# Altium integrated library Analog Devices Switches and Multiplexers Multiplexers (Muxes).IntLib: 481 symbols (part 5 of 23)
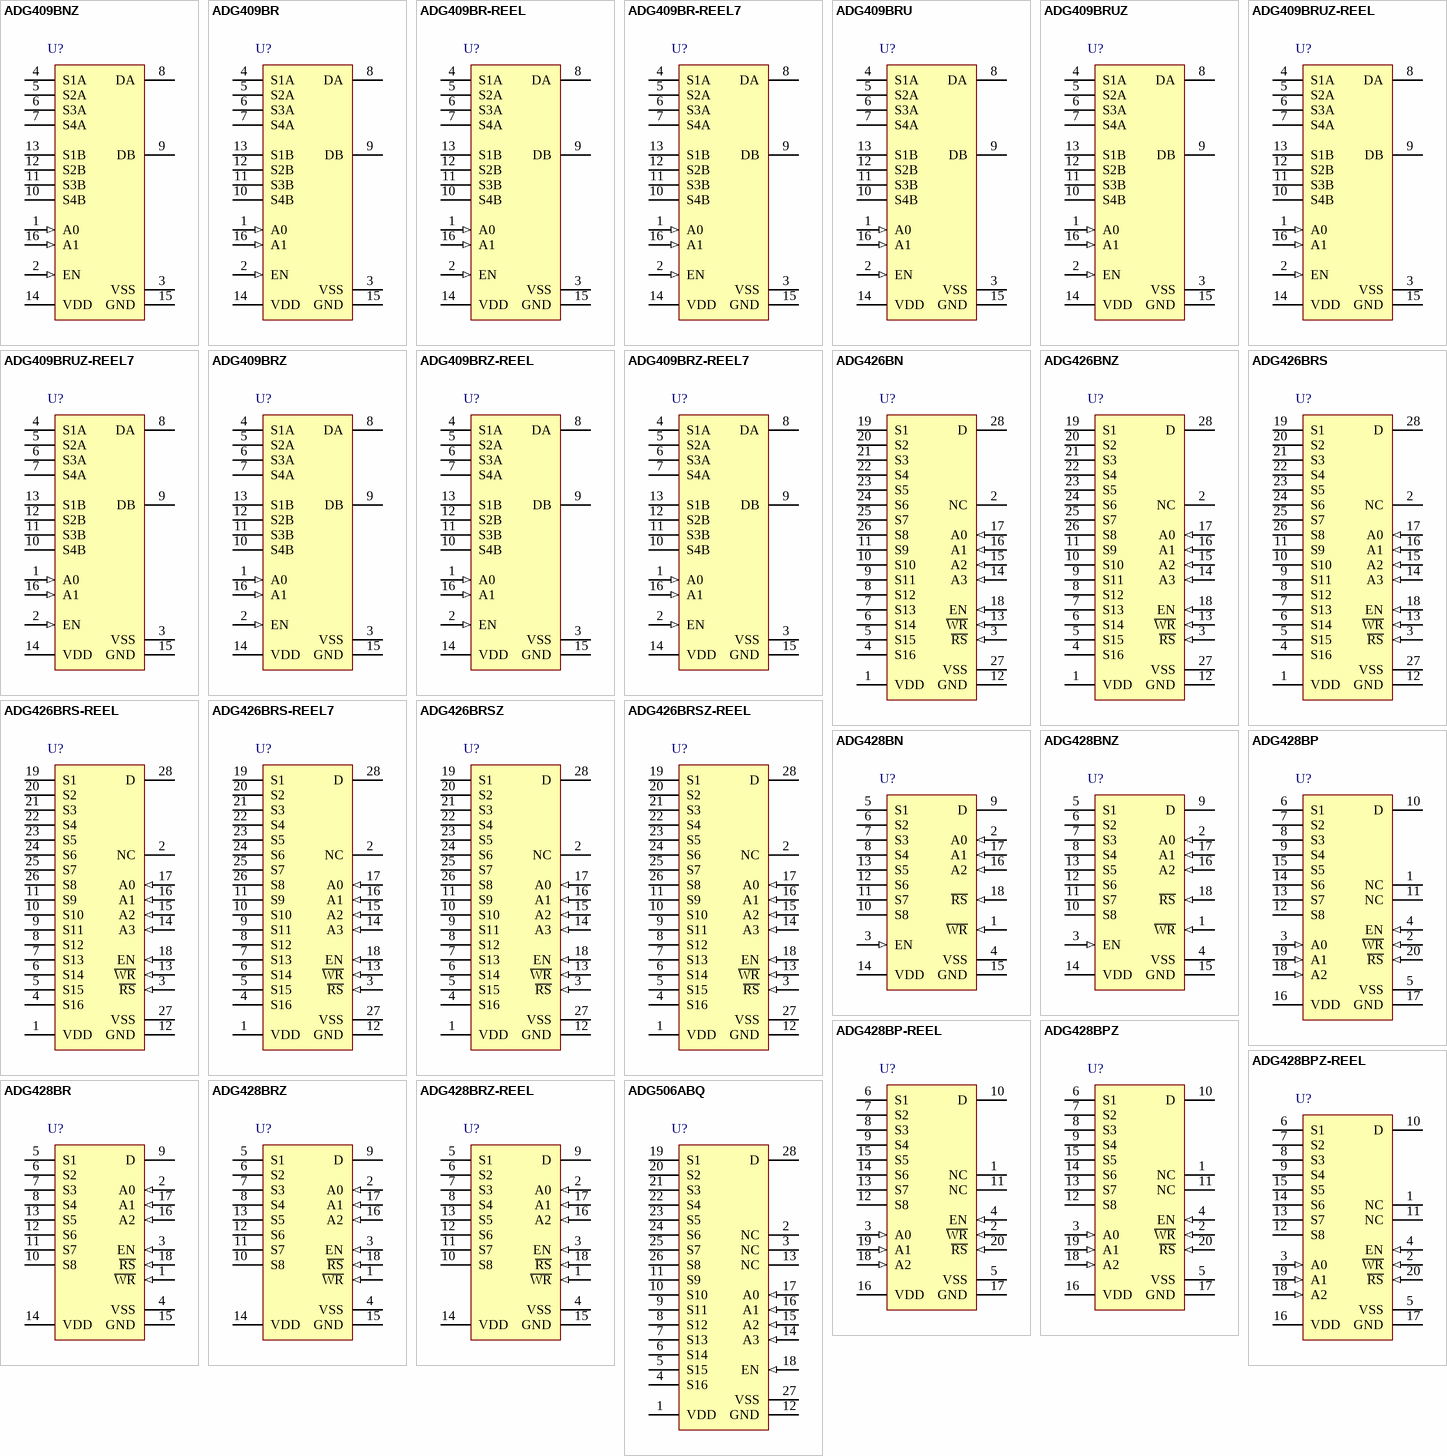
[diagram p21: symbols ADG409BNZ to ADG506ABQ]

## ADG426BN
designator U?
LC2MOS 16-Channel High Performance Analog Multiplexer, 50 Ohm / 90 Ohm Ron, 28-pin DIP (N-28-2), Tube; Manufacturer: Analog Devices; PartNumber: ADG426BN; Max Analog Signal Range: Vss to Vdd; Ron (ohms): 50; t transition (s): 120n; DatasheetVersion: Rev. B; PackageVersion: 071006-A, 07/2006; PackageReference: N-28-2; PackageDescription: 28-Pin Plastic Dual In-Line Package, Row spacing 15.24 mm, Pitch 2.54 mm; Supplier 1: Digi-Key; Supplier Part Number 1: ADG426BN-ND; Supplier 2: Newark; Supplier Part Number 2: 05F6204; Packing: Tube; Mounting Technology: Through Hole; Code_JEDEC: MS-011; ComponentLink1Description: Manufacturer URL; ComponentLink1URL: http://www.analog.com/en/index.html; ComponentLink2Description: Datasheet; ComponentLink2URL: http://www.analog.com/static/imported-files/data_sheets/ADG406_407_426.pdf; ComponentLink3Description: Package Specification; ComponentLink3URL: http://www.analog.com/static/imported-files/packages/50849324123784N_28_2.pdf
footprint ADI-N-28-2 (DIP, 28-Leads, Body 37.4x13.52mm, Pitch 2.54mm)
pins: 1 VDD (power) "Most Positive Power Supply Potential", 2 NC "No Connect.", 3 ~{RS} (in) "Active Low Logic Input. When this pin is low, all switches are open, and address and enable latches registers are cleared to 0.", 4 S16 "Source Terminal 16.These pins can be inputs or outputs", 5 S15 "Source Terminal 15.These pins can be inputs or outputs", 6 S14 "Source Terminal 14.These pins can be inputs or outputs", 7 S13 "Source Terminal 13.These pins can be inputs or outputs", 8 S12 "Source Terminal 12.These pins can be inputs or outputs", 9 S11 "Source Terminal 11.These pins can be inputs or outputs", 10 S10 "Source Terminal 10.These pins can be inputs or outputs", 11 S9 "Source Terminal  9.These pins can be inputs or outputs", 12 GND (power) "Ground (0 V) Reference.", 13 ~{WR} (in) "The rising edge of the W\R\ signal latches the state of the address control lines and the enable line.", 14 A3 (in) "Logic Control Input.", 15 A2 (in) "Logic Control Input.", 16 A1 (in) "Logic Control Input.", 17 A0 (in) "Logic Control Input.", 18 EN (in) "Active High Digital Input. When this pin is low, the device is disabled and all switches are turned off. When this pin is high, the Ax logic inputs determine which switch is turned on.", 19 S1 "Source Terminal 1. These pins can be inputs or outputs.", 20 S2 "Source Terminal 2. These pins can be inputs or outputs.", 21 S3 "Source Terminal 3. These pins can be inputs or outputs.", 22 S4 "Source Terminal 4. These pins can be inputs or outputs.", 23 S5 "Source Terminal 5. These pins can be inputs or outputs.", 24 S6 "Source Terminal 6. These pins can be inputs or outputs.", 25 S7 "Source Terminal 7. These pins can be inputs or outputs.", 26 S8 "Source Terminal 8. These pins can be inputs or outputs.", 27 VSS (power) "Most Negative Power Supply Potential. In single-supply applications, this pin can be connected to ground.", 28 D "Drain Terminal. This pin can be an input or an output."

## ADG426BNZ
designator U?
LC2MOS 16-Channel High Performance Analog Multiplexer, 50 Ohm / 90 Ohm Ron, 28-pin DIP (N-28-2), Tube; Manufacturer: Analog Devices; PartNumber: ADG426BNZ; Max Analog Signal Range: Vss to Vdd; Ron (ohms): 50; t transition (s): 120n; DatasheetVersion: Rev. B; PackageVersion: 071006-A, 07/2006; PackageReference: N-28-2; PackageDescription: 28-Pin Plastic Dual In-Line Package, Row spacing 15.24 mm, Pitch 2.54 mm; Supplier 1: Digi-Key; Supplier Part Number 1: ADG426BNZ-ND; Supplier 2: Farnell; Supplier Part Number 2: 2377071; Supplier 3: Newark; Supplier Part Number 3: 27X8143; Supplier 4: Newark; Supplier Part Number 4: 12M7795; Supplier 5: Mouser; Supplier Part Number 5: 584-ADG426BNZ; Packing: Tube; Mounting Technology: Through Hole; Code_JEDEC: MS-011; ComponentLink1Description: Manufacturer URL; ComponentLink1URL: http://www.analog.com/en/index.html; ComponentLink2Description: Datasheet; ComponentLink2URL: http://www.analog.com/static/imported-files/data_sheets/ADG406_407_426.pdf; ComponentLink3Description: Package Specification; ComponentLink3URL: http://www.analog.com/static/imported-files/packages/50849324123784N_28_2.pdf
footprint ADI-N-28-2 (DIP, 28-Leads, Body 37.4x13.52mm, Pitch 2.54mm)
pins: 1 VDD (power) "Most Positive Power Supply Potential", 2 NC "No Connect.", 3 ~{RS} (in) "Active Low Logic Input. When this pin is low, all switches are open, and address and enable latches registers are cleared to 0.", 4 S16 "Source Terminal 16.These pins can be inputs or outputs", 5 S15 "Source Terminal 15.These pins can be inputs or outputs", 6 S14 "Source Terminal 14.These pins can be inputs or outputs", 7 S13 "Source Terminal 13.These pins can be inputs or outputs", 8 S12 "Source Terminal 12.These pins can be inputs or outputs", 9 S11 "Source Terminal 11.These pins can be inputs or outputs", 10 S10 "Source Terminal 10.These pins can be inputs or outputs", 11 S9 "Source Terminal  9.These pins can be inputs or outputs", 12 GND (power) "Ground (0 V) Reference.", 13 ~{WR} (in) "The rising edge of the W\R\ signal latches the state of the address control lines and the enable line.", 14 A3 (in) "Logic Control Input.", 15 A2 (in) "Logic Control Input.", 16 A1 (in) "Logic Control Input.", 17 A0 (in) "Logic Control Input.", 18 EN (in) "Active High Digital Input. When this pin is low, the device is disabled and all switches are turned off. When this pin is high, the Ax logic inputs determine which switch is turned on.", 19 S1 "Source Terminal 1. These pins can be inputs or outputs.", 20 S2 "Source Terminal 2. These pins can be inputs or outputs.", 21 S3 "Source Terminal 3. These pins can be inputs or outputs.", 22 S4 "Source Terminal 4. These pins can be inputs or outputs.", 23 S5 "Source Terminal 5. These pins can be inputs or outputs.", 24 S6 "Source Terminal 6. These pins can be inputs or outputs.", 25 S7 "Source Terminal 7. These pins can be inputs or outputs.", 26 S8 "Source Terminal 8. These pins can be inputs or outputs.", 27 VSS (power) "Most Negative Power Supply Potential. In single-supply applications, this pin can be connected to ground.", 28 D "Drain Terminal. This pin can be an input or an output."

## ADG426BRS
designator U?
LC2MOS 16-Channel High Performance Analog Multiplexer, 50 Ohm / 90 Ohm Ron, 28-pin (RS-28), Tube; Manufacturer: Analog Devices; PartNumber: ADG426BRS; Max Analog Signal Range: Vss to Vdd; Ron (ohms): 50; t transition (s): 120n; DatasheetVersion: Rev. B; PackageVersion: Aug-06; PackageReference: RS-28; PackageDescription: 28-Pin Shrink Small Outline, Body 10.20 X 5.30 mm, Pitch 0.65 mm; Supplier 1: Digi-Key; Supplier Part Number 1: ADG426BRS-ND; Supplier 2: Newark; Supplier Part Number 2: 05F6205; Supplier 3: Mouser; Supplier Part Number 3: 584-ADG426BRS; Packing: Tube; Mounting Technology: Surface Mount; Code_JEDEC: MO-150-AH; ComponentLink1Description: Manufacturer URL; ComponentLink1URL: http://www.analog.com/en/index.html; ComponentLink2Description: Datasheet; ComponentLink2URL: http://www.analog.com/static/imported-files/data_sheets/ADG406_407_426.pdf; ComponentLink3Description: Package Specification; ComponentLink3URL: http://www.analog.com/static/imported-files/packages/32122249223724RS_28.pdf
footprint ADI-RS-28_N (SOP, 28-Leads, Body 10.2x5.3mm, Pitch 0.65mm, IPC Medium Density)
footprint ADI-RS-28_L (SOP, 28-Leads, Body 10.2x5.3mm, Pitch 0.65mm, IPC High Density)
footprint ADI-RS-28_M (SOP, 28-Leads, Body 10.2x5.3mm, Pitch 0.65mm, IPC Low Density)
pins: 1 VDD (power) "Most Positive Power Supply Potential.", 2 NC "No Connect.", 3 ~{RS} (in) "Active Low Logic Input. When this pin is low, all switches are open, and address and enable latches registers are cleared to 0.", 4 S16 "Source Terminal 16. Can be an input or an output.", 5 S15 "Source Terminal 15. Can be an input or an output.", 6 S14 "Source Terminal 14. Can be an input or an output.", 7 S13 "Source Terminal 13. Can be an input or an output.", 8 S12 "Source Terminal 12. Can be an input or an output.", 9 S11 "Source Terminal 11. Can be an input or an output.", 10 S10 "Source Terminal 10. Can be an input or an output.", 11 S9 "Source Terminal 9. Can be an input or an output.", 12 GND (power) "Ground (0 V) Reference.", 13 ~{WR} (in) "The rising edge of the W\R\ signal latches the state of the address control lines and the enable line.", 14 A3 (in) "Logic Control Input", 15 A2 (in) "Logic Control Input", 16 A1 (in) "Logic Control Input", 17 A0 (in) "Logic Control Input", 18 EN (in) "Active High Digital Input. When this pin is low, the device is disabled and all switches are turned off. When this pin is high, the Ax logic inputs determine which switch is turned on.", 19 S1 "Source Terminal 1. Can be an input or an output.", 20 S2 "Source Terminal 2. Can be an input or an output.", 21 S3 "Source Terminal 3. Can be an input or an output.", 22 S4 "Source Terminal 4. Can be an input or an output.", 23 S5 "Source Terminal 5. Can be an input or an output.", 24 S6 "Source Terminal 6. Can be an input or an output.", 25 S7 "Source Terminal 7. Can be an input or an output.", 26 S8 "Source Terminal 8. Can be an input or an output.", 27 VSS (power) "Most Negative Power Supply Potential. In single-supply applications, this pin can be connected to ground.", 28 D "Drain Terminal. Can be an input or an output."

## ADG426BRS-REEL
designator U?
LC2MOS 16-Channel High Performance Analog Multiplexer, 50 Ohm / 90 Ohm Ron, 28-pin (RS-28), Reel; Manufacturer: Analog Devices; PartNumber: ADG426BRS-REEL; Max Analog Signal Range: Vss to Vdd; Ron (ohms): 50; t transition (s): 120n; DatasheetVersion: Rev. B; PackageVersion: Aug-06; PackageReference: RS-28; PackageDescription: 28-Pin Shrink Small Outline, Body 10.20 X 5.30 mm, Pitch 0.65 mm; Supplier 1: Digi-Key; Supplier Part Number 1: ADG426BRS-REEL-ND; Supplier 2: Newark; Supplier Part Number 2: 09B7036; Supplier 3: Mouser; Supplier Part Number 3: 584-ADG426BRS-R; Packing: Reel; Mounting Technology: Surface Mount; Code_JEDEC: MO-150-AH; ComponentLink1Description: Manufacturer URL; ComponentLink1URL: http://www.analog.com/en/index.html; ComponentLink2Description: Datasheet; ComponentLink2URL: http://www.analog.com/static/imported-files/data_sheets/ADG406_407_426.pdf; ComponentLink3Description: Package Specification; ComponentLink3URL: http://www.analog.com/static/imported-files/packages/32122249223724RS_28.pdf
footprint ADI-RS-28_N (SOP, 28-Leads, Body 10.2x5.3mm, Pitch 0.65mm, IPC Medium Density)
footprint ADI-RS-28_L (SOP, 28-Leads, Body 10.2x5.3mm, Pitch 0.65mm, IPC High Density)
footprint ADI-RS-28_M (SOP, 28-Leads, Body 10.2x5.3mm, Pitch 0.65mm, IPC Low Density)
pins: 1 VDD (power) "Most Positive Power Supply Potential.", 2 NC "No Connect.", 3 ~{RS} (in) "Active Low Logic Input. When this pin is low, all switches are open, and address and enable latches registers are cleared to 0.", 4 S16 "Source Terminal 16. Can be an input or an output.", 5 S15 "Source Terminal 15. Can be an input or an output.", 6 S14 "Source Terminal 14. Can be an input or an output.", 7 S13 "Source Terminal 13. Can be an input or an output.", 8 S12 "Source Terminal 12. Can be an input or an output.", 9 S11 "Source Terminal 11. Can be an input or an output.", 10 S10 "Source Terminal 10. Can be an input or an output.", 11 S9 "Source Terminal 9. Can be an input or an output.", 12 GND (power) "Ground (0 V) Reference.", 13 ~{WR} (in) "The rising edge of the W\R\ signal latches the state of the address control lines and the enable line.", 14 A3 (in) "Logic Control Input", 15 A2 (in) "Logic Control Input", 16 A1 (in) "Logic Control Input", 17 A0 (in) "Logic Control Input", 18 EN (in) "Active High Digital Input. When this pin is low, the device is disabled and all switches are turned off. When this pin is high, the Ax logic inputs determine which switch is turned on.", 19 S1 "Source Terminal 1. Can be an input or an output.", 20 S2 "Source Terminal 2. Can be an input or an output.", 21 S3 "Source Terminal 3. Can be an input or an output.", 22 S4 "Source Terminal 4. Can be an input or an output.", 23 S5 "Source Terminal 5. Can be an input or an output.", 24 S6 "Source Terminal 6. Can be an input or an output.", 25 S7 "Source Terminal 7. Can be an input or an output.", 26 S8 "Source Terminal 8. Can be an input or an output.", 27 VSS (power) "Most Negative Power Supply Potential. In single-supply applications, this pin can be connected to ground.", 28 D "Drain Terminal. Can be an input or an output."

## ADG426BRS-REEL7
designator U?
LC2MOS 16-Channel High Performance Analog Multiplexer, 50 Ohm / 90 Ohm Ron, 28-pin (RS-28), Reel; Manufacturer: Analog Devices; PartNumber: ADG426BRS-REEL7; Max Analog Signal Range: Vss to Vdd; Ron (ohms): 50; t transition (s): 120n; DatasheetVersion: Rev. B; PackageVersion: Aug-06; PackageReference: RS-28; PackageDescription: 28-Pin Shrink Small Outline, Body 10.20 X 5.30 mm, Pitch 0.65 mm; Supplier 1: Mouser; Supplier Part Number 1: N/A; Packing: Reel; Mounting Technology: Surface Mount; Code_JEDEC: MO-150-AH; ComponentLink1Description: Manufacturer URL; ComponentLink1URL: http://www.analog.com/en/index.html; ComponentLink2Description: Datasheet; ComponentLink2URL: http://www.analog.com/static/imported-files/data_sheets/ADG406_407_426.pdf; ComponentLink3Description: Package Specification; ComponentLink3URL: http://www.analog.com/static/imported-files/packages/32122249223724RS_28.pdf
footprint ADI-RS-28_N (SOP, 28-Leads, Body 10.2x5.3mm, Pitch 0.65mm, IPC Medium Density)
footprint ADI-RS-28_L (SOP, 28-Leads, Body 10.2x5.3mm, Pitch 0.65mm, IPC High Density)
footprint ADI-RS-28_M (SOP, 28-Leads, Body 10.2x5.3mm, Pitch 0.65mm, IPC Low Density)
pins: 1 VDD (power) "Most Positive Power Supply Potential.", 2 NC "No Connect.", 3 ~{RS} (in) "Active Low Logic Input. When this pin is low, all switches are open, and address and enable latches registers are cleared to 0.", 4 S16 "Source Terminal 16. Can be an input or an output.", 5 S15 "Source Terminal 15. Can be an input or an output.", 6 S14 "Source Terminal 14. Can be an input or an output.", 7 S13 "Source Terminal 13. Can be an input or an output.", 8 S12 "Source Terminal 12. Can be an input or an output.", 9 S11 "Source Terminal 11. Can be an input or an output.", 10 S10 "Source Terminal 10. Can be an input or an output.", 11 S9 "Source Terminal 9. Can be an input or an output.", 12 GND (power) "Ground (0 V) Reference.", 13 ~{WR} (in) "The rising edge of the W\R\ signal latches the state of the address control lines and the enable line.", 14 A3 (in) "Logic Control Input", 15 A2 (in) "Logic Control Input", 16 A1 (in) "Logic Control Input", 17 A0 (in) "Logic Control Input", 18 EN (in) "Active High Digital Input. When this pin is low, the device is disabled and all switches are turned off. When this pin is high, the Ax logic inputs determine which switch is turned on.", 19 S1 "Source Terminal 1. Can be an input or an output.", 20 S2 "Source Terminal 2. Can be an input or an output.", 21 S3 "Source Terminal 3. Can be an input or an output.", 22 S4 "Source Terminal 4. Can be an input or an output.", 23 S5 "Source Terminal 5. Can be an input or an output.", 24 S6 "Source Terminal 6. Can be an input or an output.", 25 S7 "Source Terminal 7. Can be an input or an output.", 26 S8 "Source Terminal 8. Can be an input or an output.", 27 VSS (power) "Most Negative Power Supply Potential. In single-supply applications, this pin can be connected to ground.", 28 D "Drain Terminal. Can be an input or an output."

## ADG426BRSZ
designator U?
LC2MOS 16-Channel High Performance Analog Multiplexer, 50 Ohm / 90 Ohm Ron, 28-pin SOP (RS-28), Tube; Manufacturer: Analog Devices; PartNumber: ADG426BRSZ; Max Analog Signal Range: Vss to Vdd; Ron (ohms): 50; t transition (s): 120n; DatasheetVersion: Rev. B; PackageVersion: Aug-06; PackageReference: RS-28; PackageDescription: 28-Pin Shrink Small Outline, Body 10.20 X 5.30 mm, Pitch 0.65 mm; Supplier 1: Digi-Key; Supplier Part Number 1: ADG426BRSZ-ND; Supplier 2: Farnell; Supplier Part Number 2: 2305794; Supplier 3: Newark; Supplier Part Number 3: 59K1266; Supplier 4: Mouser; Supplier Part Number 4: 584-ADG426BRSZ; Packing: Tube; Mounting Technology: Surface Mount; Code_JEDEC: MO-150-AH; ComponentLink1Description: Manufacturer URL; ComponentLink1URL: http://www.analog.com/en/index.html; ComponentLink2Description: Datasheet; ComponentLink2URL: http://www.analog.com/static/imported-files/data_sheets/ADG406_407_426.pdf; ComponentLink3Description: Package Specification; ComponentLink3URL: http://www.analog.com/static/imported-files/packages/32122249223724RS_28.pdf
footprint ADI-RS-28_N (SOP, 28-Leads, Body 10.2x5.3mm, Pitch 0.65mm, IPC Medium Density)
footprint ADI-RS-28_L (SOP, 28-Leads, Body 10.2x5.3mm, Pitch 0.65mm, IPC High Density)
footprint ADI-RS-28_M (SOP, 28-Leads, Body 10.2x5.3mm, Pitch 0.65mm, IPC Low Density)
pins: 1 VDD (power) "Most Positive Power Supply Potential.", 2 NC "No Connect.", 3 ~{RS} (in) "Active Low Logic Input. When this pin is low, all switches are open, and address and enable latches registers are cleared to 0.", 4 S16 "Source Terminal 16. Can be an input or an output.", 5 S15 "Source Terminal 15. Can be an input or an output.", 6 S14 "Source Terminal 14. Can be an input or an output.", 7 S13 "Source Terminal 13. Can be an input or an output.", 8 S12 "Source Terminal 12. Can be an input or an output.", 9 S11 "Source Terminal 11. Can be an input or an output.", 10 S10 "Source Terminal 10. Can be an input or an output.", 11 S9 "Source Terminal 9. Can be an input or an output.", 12 GND (power) "Ground (0 V) Reference.", 13 ~{WR} (in) "The rising edge of the W\R\ signal latches the state of the address control lines and the enable line.", 14 A3 (in) "Logic Control Input", 15 A2 (in) "Logic Control Input", 16 A1 (in) "Logic Control Input", 17 A0 (in) "Logic Control Input", 18 EN (in) "Active High Digital Input. When this pin is low, the device is disabled and all switches are turned off. When this pin is high, the Ax logic inputs determine which switch is turned on.", 19 S1 "Source Terminal 1. Can be an input or an output.", 20 S2 "Source Terminal 2. Can be an input or an output.", 21 S3 "Source Terminal 3. Can be an input or an output.", 22 S4 "Source Terminal 4. Can be an input or an output.", 23 S5 "Source Terminal 5. Can be an input or an output.", 24 S6 "Source Terminal 6. Can be an input or an output.", 25 S7 "Source Terminal 7. Can be an input or an output.", 26 S8 "Source Terminal 8. Can be an input or an output.", 27 VSS (power) "Most Negative Power Supply Potential. In single-supply applications, this pin can be connected to ground.", 28 D "Drain Terminal. Can be an input or an output."

## ADG426BRSZ-REEL
designator U?
LC2MOS 16-Channel High Performance Analog Multiplexer, 50 Ohm / 90 Ohm Ron, 28-pin (RS-28), Reel; Manufacturer: Analog Devices; PartNumber: ADG426BRSZ-REEL; Max Analog Signal Range: Vss to Vdd; Ron (ohms): 50; t transition (s): 120n; DatasheetVersion: Rev. B; PackageVersion: Aug-06; PackageReference: RS-28; PackageDescription: 28-Pin Shrink Small Outline, Body 10.20 X 5.30 mm, Pitch 0.65 mm; Supplier 1: Digi-Key; Supplier Part Number 1: ADG426BRSZ-REEL-ND; Supplier 2: Newark; Supplier Part Number 2: 59K1267; Supplier 3: Mouser; Supplier Part Number 3: 584-ADG426BRSZ-R; Packing: Reel; Mounting Technology: Surface Mount; Code_JEDEC: MO-150-AH; ComponentLink1Description: Manufacturer URL; ComponentLink1URL: http://www.analog.com/en/index.html; ComponentLink2Description: Datasheet; ComponentLink2URL: http://www.analog.com/static/imported-files/data_sheets/ADG406_407_426.pdf; ComponentLink3Description: Package Specification; ComponentLink3URL: http://www.analog.com/static/imported-files/packages/32122249223724RS_28.pdf
footprint ADI-RS-28_N (SOP, 28-Leads, Body 10.2x5.3mm, Pitch 0.65mm, IPC Medium Density)
footprint ADI-RS-28_L (SOP, 28-Leads, Body 10.2x5.3mm, Pitch 0.65mm, IPC High Density)
footprint ADI-RS-28_M (SOP, 28-Leads, Body 10.2x5.3mm, Pitch 0.65mm, IPC Low Density)
pins: 1 VDD (power) "Most Positive Power Supply Potential.", 2 NC "No Connect.", 3 ~{RS} (in) "Active Low Logic Input. When this pin is low, all switches are open, and address and enable latches registers are cleared to 0.", 4 S16 "Source Terminal 16. Can be an input or an output.", 5 S15 "Source Terminal 15. Can be an input or an output.", 6 S14 "Source Terminal 14. Can be an input or an output.", 7 S13 "Source Terminal 13. Can be an input or an output.", 8 S12 "Source Terminal 12. Can be an input or an output.", 9 S11 "Source Terminal 11. Can be an input or an output.", 10 S10 "Source Terminal 10. Can be an input or an output.", 11 S9 "Source Terminal 9. Can be an input or an output.", 12 GND (power) "Ground (0 V) Reference.", 13 ~{WR} (in) "The rising edge of the W\R\ signal latches the state of the address control lines and the enable line.", 14 A3 (in) "Logic Control Input", 15 A2 (in) "Logic Control Input", 16 A1 (in) "Logic Control Input", 17 A0 (in) "Logic Control Input", 18 EN (in) "Active High Digital Input. When this pin is low, the device is disabled and all switches are turned off. When this pin is high, the Ax logic inputs determine which switch is turned on.", 19 S1 "Source Terminal 1. Can be an input or an output.", 20 S2 "Source Terminal 2. Can be an input or an output.", 21 S3 "Source Terminal 3. Can be an input or an output.", 22 S4 "Source Terminal 4. Can be an input or an output.", 23 S5 "Source Terminal 5. Can be an input or an output.", 24 S6 "Source Terminal 6. Can be an input or an output.", 25 S7 "Source Terminal 7. Can be an input or an output.", 26 S8 "Source Terminal 8. Can be an input or an output.", 27 VSS (power) "Most Negative Power Supply Potential. In single-supply applications, this pin can be connected to ground.", 28 D "Drain Terminal. Can be an input or an output."

## ADG428BN
designator U?
LC2MOS Latchable 8-Channel High Performance Analog Multiplexer, 60 Ohm / 90 Ohm Ron, 18-pin DIP (N-18), Tube; Manufacturer: Analog Devices; PartNumber: ADG428BN; Max Analog Signal Range: Vss to Vdd; Ron (ohms): 60; t transition (s): 110n; DatasheetVersion: Rev. C; PackageVersion: 070706-A, 07/2006; PackageReference: N-18; PackageDescription: 18-Pin Plastic Dual In-Line Package, Row spacing 7.62 mm, Pitch 2.54 mm; Supplier 1: Digi-Key; Supplier Part Number 1: ADG428BN-ND; Packing: Tube; Mounting Technology: Through Hole; Code_JEDEC: MS-001; ComponentLink1Description: Manufacturer URL; ComponentLink1URL: http://www.analog.com/en/index.html; ComponentLink2Description: Datasheet; ComponentLink2URL: http://www.analog.com/static/imported-files/data_sheets/ADG428_429.pdf; ComponentLink3Description: Package Specification; ComponentLink3URL: http://www.analog.com/static/imported-files/packages/44930452931834N_18.pdf
footprint ADI-N-18 (DIP, 18-Leads, Body 22.86x6.6mm, Pitch 2.54mm)
pins: 1 ~{WR} (in), 2 A0 (in), 3 EN (in), 4 VSS (power) "Most negative power supply potential in dual supplies. In single supply applications, it may be connected to ground.", 5 S1, 6 S2, 7 S3, 8 S4, 9 D, 10 S8, 11 S7, 12 S6, 13 S5, 14 VDD (power) "Most positive power supply potential.", 15 GND (power) "Ground (0 V) reference.", 16 A2 (in), 17 A1 (in), 18 ~{RS} (in)

## ADG428BNZ
designator U?
LC2MOS Latchable 8-Channel High Performance Analog Multiplexer, 60 Ohm / 90 Ohm Ron, 18-pin DIP (N-18), Tube; Manufacturer: Analog Devices; PartNumber: ADG428BNZ; Max Analog Signal Range: Vss to Vdd; Ron (ohms): 60; t transition (s): 110n; DatasheetVersion: Rev. C; PackageVersion: 070706-A, 07/2006; PackageReference: N-18; PackageDescription: 18-Pin Plastic Dual In-Line Package, Row spacing 7.62 mm, Pitch 2.54 mm; Supplier 1: Digi-Key; Supplier Part Number 1: ADG428BNZ-ND; Supplier 2: Farnell; Supplier Part Number 2: 1079430; Supplier 3: Newark; Supplier Part Number 3: 31M3785; Supplier 4: Newark; Supplier Part Number 4: 59K1268; Supplier 5: Mouser; Supplier Part Number 5: 584-ADG428BNZ; Packing: Tube; Mounting Technology: Through Hole; Code_JEDEC: MS-001; ComponentLink1Description: Manufacturer URL; ComponentLink1URL: http://www.analog.com/en/index.html; ComponentLink2Description: Datasheet; ComponentLink2URL: http://www.analog.com/static/imported-files/data_sheets/ADG428_429.pdf; ComponentLink3Description: Package Specification; ComponentLink3URL: http://www.analog.com/static/imported-files/packages/44930452931834N_18.pdf
footprint ADI-N-18 (DIP, 18-Leads, Body 22.86x6.6mm, Pitch 2.54mm)
pins: 1 ~{WR} (in), 2 A0 (in), 3 EN (in), 4 VSS (power) "Most negative power supply potential in dual supplies. In single supply applications, it may be connected to ground.", 5 S1, 6 S2, 7 S3, 8 S4, 9 D, 10 S8, 11 S7, 12 S6, 13 S5, 14 VDD (power) "Most positive power supply potential.", 15 GND (power) "Ground (0 V) reference.", 16 A2 (in), 17 A1 (in), 18 ~{RS} (in)

## ADG428BP
designator U?
LC2MOS Latchable 8-Channel High Performance Analog Multiplexer, 60 Ohm / 90 Ohm Ron, 20-pin PLCC (P-20A), Tube; Manufacturer: Analog Devices; PartNumber: ADG428BP; Max Analog Signal Range: Vss to Vdd; Ron (ohms): 60; t transition (s): 110n; DatasheetVersion: Rev. C; PackageVersion: Nov-02; PackageReference: P-20A; PackageDescription: 20-Pin Plastic Leaded Chip Carrier, Body 8.97 x 8.97 mm, Pitch 1.27 mm; Supplier 1: Digi-Key; Supplier Part Number 1: ADG428BP-ND; Packing: Tube; Mounting Technology: Surface Mount; Code_JEDEC: MO-047AA; ComponentLink1Description: Manufacturer URL; ComponentLink1URL: http://www.analog.com/en/index.html; ComponentLink2Description: Datasheet; ComponentLink2URL: http://www.analog.com/static/imported-files/data_sheets/ADG428_429.pdf; ComponentLink3Description: Package Specification; ComponentLink3URL: http://www.analog.com/static/imported-files/packages/3121431516544404277643669223804694P20A.pdf
footprint ADI-P-20A_N (PLCC, 20-Leads, Body 8.965x8.965mm, Pitch 1.27mm, IPC Medium Density)
footprint ADI-P-20A_L (PLCC, 20-Leads, Body 8.965x8.965mm, Pitch 1.27mm, IPC High Density)
footprint ADI-P-20A_M (PLCC, 20-Leads, Body 8.965x8.965mm, Pitch 1.27mm, IPC Low Density)
pins: 1 NC, 2 ~{WR} (in), 3 A0 (in), 4 EN (in), 5 VSS (power), 6 S1, 7 S2, 8 S3, 9 S4, 10 D, 11 NC, 12 S8, 13 S7, 14 S6, 15 S5, 16 VDD (power), 17 GND (power), 18 A2 (in), 19 A1 (in), 20 ~{RS} (in)

## ADG428BP-REEL
designator U?
LC2MOS Latchable 8-Channel High Performance Analog Multiplexer, 60 Ohm / 90 Ohm Ron, 20-pin PLCC (P-20A), Reel; Manufacturer: Analog Devices; PartNumber: ADG428BP-REEL; Max Analog Signal Range: Vss to Vdd; Ron (ohms): 60; t transition (s): 110n; DatasheetVersion: Rev. C; PackageVersion: Nov-02; PackageReference: P-20A; PackageDescription: 20-Pin Plastic Leaded Chip Carrier, Body 8.97 x 8.97 mm, Pitch 1.27 mm; Supplier 1: Digi-Key; Supplier Part Number 1: ADG428BP-REEL-ND; Packing: Reel; Mounting Technology: Surface Mount; Code_JEDEC: MO-047AA; ComponentLink1Description: Manufacturer URL; ComponentLink1URL: http://www.analog.com/en/index.html; ComponentLink2Description: Datasheet; ComponentLink2URL: http://www.analog.com/static/imported-files/data_sheets/ADG428_429.pdf; ComponentLink3Description: Package Specification; ComponentLink3URL: http://www.analog.com/static/imported-files/packages/3121431516544404277643669223804694P20A.pdf
footprint ADI-P-20A_N (PLCC, 20-Leads, Body 8.965x8.965mm, Pitch 1.27mm, IPC Medium Density)
footprint ADI-P-20A_L (PLCC, 20-Leads, Body 8.965x8.965mm, Pitch 1.27mm, IPC High Density)
footprint ADI-P-20A_M (PLCC, 20-Leads, Body 8.965x8.965mm, Pitch 1.27mm, IPC Low Density)
pins: 1 NC, 2 ~{WR} (in), 3 A0 (in), 4 EN (in), 5 VSS (power), 6 S1, 7 S2, 8 S3, 9 S4, 10 D, 11 NC, 12 S8, 13 S7, 14 S6, 15 S5, 16 VDD (power), 17 GND (power), 18 A2 (in), 19 A1 (in), 20 ~{RS} (in)

## ADG428BPZ
designator U?
LC2MOS Latchable 8-Channel High Performance Analog Multiplexer, 60 Ohm / 90 Ohm Ron, 20-pin PLCC (P-20A), Tube; Manufacturer: Analog Devices; PartNumber: ADG428BPZ; Max Analog Signal Range: Vss to Vdd; Ron (ohms): 60; t transition (s): 110n; DatasheetVersion: Rev. C; PackageVersion: Nov-02; PackageReference: P-20A; PackageDescription: 20-Pin Plastic Leaded Chip Carrier, Body 8.97 x 8.97 mm, Pitch 1.27 mm; Supplier 1: Digi-Key; Supplier Part Number 1: ADG428BPZ-ND; Supplier 2: Newark; Supplier Part Number 2: 59K1269; Supplier 3: Mouser; Supplier Part Number 3: 584-ADG428BPZ; Packing: Tube; Mounting Technology: Surface Mount; Code_JEDEC: MO-047AA; ComponentLink1Description: Manufacturer URL; ComponentLink1URL: http://www.analog.com/en/index.html; ComponentLink2Description: Datasheet; ComponentLink2URL: http://www.analog.com/static/imported-files/data_sheets/ADG428_429.pdf; ComponentLink3Description: Package Specification; ComponentLink3URL: http://www.analog.com/static/imported-files/packages/3121431516544404277643669223804694P20A.pdf
footprint ADI-P-20A_N (PLCC, 20-Leads, Body 8.965x8.965mm, Pitch 1.27mm, IPC Medium Density)
footprint ADI-P-20A_L (PLCC, 20-Leads, Body 8.965x8.965mm, Pitch 1.27mm, IPC High Density)
footprint ADI-P-20A_M (PLCC, 20-Leads, Body 8.965x8.965mm, Pitch 1.27mm, IPC Low Density)
pins: 1 NC, 2 ~{WR} (in), 3 A0 (in), 4 EN (in), 5 VSS (power), 6 S1, 7 S2, 8 S3, 9 S4, 10 D, 11 NC, 12 S8, 13 S7, 14 S6, 15 S5, 16 VDD (power), 17 GND (power), 18 A2 (in), 19 A1 (in), 20 ~{RS} (in)

## ADG428BPZ-REEL
designator U?
LC2MOS Latchable 8-Channel High Performance Analog Multiplexer, 60 Ohm / 90 Ohm Ron, 20-pin PLCC (P-20A), Reel; Manufacturer: Analog Devices; PartNumber: ADG428BPZ-REEL; Max Analog Signal Range: Vss to Vdd; Ron (ohms): 60; t transition (s): 110n; DatasheetVersion: Rev. C; PackageVersion: Nov-02; PackageReference: P-20A; PackageDescription: 20-Pin Plastic Leaded Chip Carrier, Body 8.97 x 8.97 mm, Pitch 1.27 mm; Supplier 1: Digi-Key; Supplier Part Number 1: ADG428BPZ-REEL-ND; Supplier 2: Mouser; Supplier Part Number 2: 584-ADG428BPZ-R; Packing: Reel; Mounting Technology: Surface Mount; Code_JEDEC: MO-047AA; ComponentLink1Description: Manufacturer URL; ComponentLink1URL: http://www.analog.com/en/index.html; ComponentLink2Description: Datasheet; ComponentLink2URL: http://www.analog.com/static/imported-files/data_sheets/ADG428_429.pdf; ComponentLink3Description: Package Specification; ComponentLink3URL: http://www.analog.com/static/imported-files/packages/3121431516544404277643669223804694P20A.pdf
footprint ADI-P-20A_N (PLCC, 20-Leads, Body 8.965x8.965mm, Pitch 1.27mm, IPC Medium Density)
footprint ADI-P-20A_L (PLCC, 20-Leads, Body 8.965x8.965mm, Pitch 1.27mm, IPC High Density)
footprint ADI-P-20A_M (PLCC, 20-Leads, Body 8.965x8.965mm, Pitch 1.27mm, IPC Low Density)
pins: 1 NC, 2 ~{WR} (in), 3 A0 (in), 4 EN (in), 5 VSS (power), 6 S1, 7 S2, 8 S3, 9 S4, 10 D, 11 NC, 12 S8, 13 S7, 14 S6, 15 S5, 16 VDD (power), 17 GND (power), 18 A2 (in), 19 A1 (in), 20 ~{RS} (in)

## ADG428BR
designator U?
LC2MOS Latchable 8-Channel High Performance Analog Multiplexer, 60 Ohm / 90 Ohm Ron, 18-pin SOIC (RW-18), Tube; Manufacturer: Analog Devices; PartNumber: ADG428BR; Max Analog Signal Range: Vss to Vdd; Ron (ohms): 60; t transition (s): 110n; DatasheetVersion: Rev. C; PackageVersion: 060706-A, 06/2006; PackageReference: RW-18; PackageDescription: 18-Pin Standard Small Outline Package, Body 11.55 x 7.5 mm, Pitch 1.27 mm; Supplier 1: Digi-Key; Supplier Part Number 1: ADG428BR-ND; Supplier 2: Mouser; Supplier Part Number 2: 584-ADG428BR; Packing: Tube; Mounting Technology: Surface Mount; Code_JEDEC: MS-013-AB; ComponentLink1Description: Manufacturer URL; ComponentLink1URL: http://www.analog.com/en/index.html; ComponentLink2Description: Datasheet; ComponentLink2URL: http://www.analog.com/static/imported-files/data_sheets/ADG428_429.pdf; ComponentLink3Description: Package Specification; ComponentLink3URL: http://www.analog.com/static/imported-files/packages/33254132129439RW_18.pdf
footprint ADI-RW-18_N (SOIC, 18-Leads, Body 11.55x7.5mm, Pitch 1.27mm, IPC Medium Density)
footprint ADI-RW-18_L (SOIC, 18-Leads, Body 11.55x7.5mm, Pitch 1.27mm, IPC High Density)
footprint ADI-RW-18_M (SOIC, 18-Leads, Body 11.55x7.5mm, Pitch 1.27mm, IPC Low Density)
pins: 1 ~{WR} (in), 2 A0 (in), 3 EN (in), 4 VSS (power), 5 S1, 6 S2, 7 S3, 8 S4, 9 D, 10 S8, 11 S7, 12 S6, 13 S5, 14 VDD (power), 15 GND (power), 16 A2 (in), 17 A1 (in), 18 ~{RS} (in)

## ADG428BRZ
designator U?
LC2MOS Latchable 8-Channel High Performance Analog Multiplexer, 60 Ohm / 90 Ohm Ron, 18-pin SOIC (RW-18), Tube; Manufacturer: Analog Devices; PartNumber: ADG428BRZ; Max Analog Signal Range: Vss to Vdd; Ron (ohms): 60; t transition (s): 110n; DatasheetVersion: Rev. C; PackageVersion: 060706-A, 06/2006; PackageReference: RW-18; PackageDescription: 18-Pin Standard Small Outline Package, Body 11.55 x 7.5 mm, Pitch 1.27 mm; Supplier 1: Digi-Key; Supplier Part Number 1: ADG428BRZ-ND; Supplier 2: Farnell; Supplier Part Number 2: 2305795; Supplier 3: Newark; Supplier Part Number 3: 59K1271; Supplier 4: Mouser; Supplier Part Number 4: 584-ADG428BRZ; Packing: Tube; Mounting Technology: Surface Mount; Code_JEDEC: MS-013-AB; ComponentLink1Description: Manufacturer URL; ComponentLink1URL: http://www.analog.com/en/index.html; ComponentLink2Description: Datasheet; ComponentLink2URL: http://www.analog.com/static/imported-files/data_sheets/ADG428_429.pdf; ComponentLink3Description: Package Specification; ComponentLink3URL: http://www.analog.com/static/imported-files/packages/33254132129439RW_18.pdf
footprint ADI-RW-18_N (SOIC, 18-Leads, Body 11.55x7.5mm, Pitch 1.27mm, IPC Medium Density)
footprint ADI-RW-18_L (SOIC, 18-Leads, Body 11.55x7.5mm, Pitch 1.27mm, IPC High Density)
footprint ADI-RW-18_M (SOIC, 18-Leads, Body 11.55x7.5mm, Pitch 1.27mm, IPC Low Density)
pins: 1 ~{WR} (in), 2 A0 (in), 3 EN (in), 4 VSS (power), 5 S1, 6 S2, 7 S3, 8 S4, 9 D, 10 S8, 11 S7, 12 S6, 13 S5, 14 VDD (power), 15 GND (power), 16 A2 (in), 17 A1 (in), 18 ~{RS} (in)

## ADG428BRZ-REEL
designator U?
LC2MOS Latchable 8-Channel High Performance Analog Multiplexer, 60 Ohm / 90 Ohm Ron, 18-pin SOIC (RW-18), Reel; Manufacturer: Analog Devices; PartNumber: ADG428BRZ-REEL; Max Analog Signal Range: Vss to Vdd; Ron (ohms): 60; t transition (s): 110n; DatasheetVersion: Rev. C; PackageVersion: 060706-A, 06/2006; PackageReference: RW-18; PackageDescription: 18-Pin Standard Small Outline Package, Body 11.55 x 7.5 mm, Pitch 1.27 mm; Supplier 1: Digi-Key; Supplier Part Number 1: ADG428BRZ-REELTR-ND; Supplier 2: Digi-Key; Supplier Part Number 2: ADG428BRZ-REELCT-ND; Supplier 3: Digi-Key; Supplier Part Number 3: ADG428BRZ-REELDKR-ND; Supplier 4: Mouser; Supplier Part Number 4: 584-ADG428BRZ-R; Packing: Reel; Mounting Technology: Surface Mount; Code_JEDEC: MS-013-AB; ComponentLink1Description: Manufacturer URL; ComponentLink1URL: http://www.analog.com/en/index.html; ComponentLink2Description: Datasheet; ComponentLink2URL: http://www.analog.com/static/imported-files/data_sheets/ADG428_429.pdf; ComponentLink3Description: Package Specification; ComponentLink3URL: http://www.analog.com/static/imported-files/packages/33254132129439RW_18.pdf
footprint ADI-RW-18_N (SOIC, 18-Leads, Body 11.55x7.5mm, Pitch 1.27mm, IPC Medium Density)
footprint ADI-RW-18_L (SOIC, 18-Leads, Body 11.55x7.5mm, Pitch 1.27mm, IPC High Density)
footprint ADI-RW-18_M (SOIC, 18-Leads, Body 11.55x7.5mm, Pitch 1.27mm, IPC Low Density)
pins: 1 ~{WR} (in), 2 A0 (in), 3 EN (in), 4 VSS (power), 5 S1, 6 S2, 7 S3, 8 S4, 9 D, 10 S8, 11 S7, 12 S6, 13 S5, 14 VDD (power), 15 GND (power), 16 A2 (in), 17 A1 (in), 18 ~{RS} (in)

## ADG506ABQ
designator U?
CMOS 16-Channel Analog Multiplexer, 280 Ohm / 500 Ohm Ron, 28-pin DIP (Q-28-2), Tube; Manufacturer: Analog Devices; PartNumber: ADG506ABQ; Max Analog Signal Range: Vss to Vdd; Ron (ohms): 280; t transition (s): 200n; DatasheetVersion: Rev. C; PackageVersion: 030106-A, 03/2006; PackageReference: Q-28-2; PackageDescription: 28-Pin Ceramic Dual In-Line Package, Row spacing 15.24 mm, Pitch 2.54 mm; Supplier 1: Digi-Key; Supplier Part Number 1: ADG506ABQ-ND; Supplier 2: Newark; Supplier Part Number 2: 05F6207; Supplier 3: Mouser; Supplier Part Number 3: 584-ADG506ABQ; Packing: Tube; Mounting Technology: Through Hole; ComponentLink1Description: Manufacturer URL; ComponentLink1URL: http://www.analog.com/en/index.html; ComponentLink2Description: Datasheet; ComponentLink2URL: http://www.analog.com/static/imported-files/data_sheets/ADG506A_507A.pdf; ComponentLink3Description: Package Specification; ComponentLink3URL: http://www.analog.com/static/imported-files/packages/4045339666127361303Q_28_2.pdf
footprint ADI-Q-28-2 (DIP, 28-Leads, Body 37.85x14.1mm, Pitch 2.54mm)
pins: 1 VDD (power), 2 NC "NO CONNECT", 3 NC "NO CONNECT", 4 S16, 5 S15, 6 S14, 7 S13, 8 S12, 9 S11, 10 S10, 11 S9, 12 GND (power), 13 NC "NO CONNECT", 14 A3 (in), 15 A2 (in), 16 A1 (in), 17 A0 (in), 18 EN (in), 19 S1, 20 S2, 21 S3, 22 S4, 23 S5, 24 S6, 25 S7, 26 S8, 27 VSS (power), 28 D

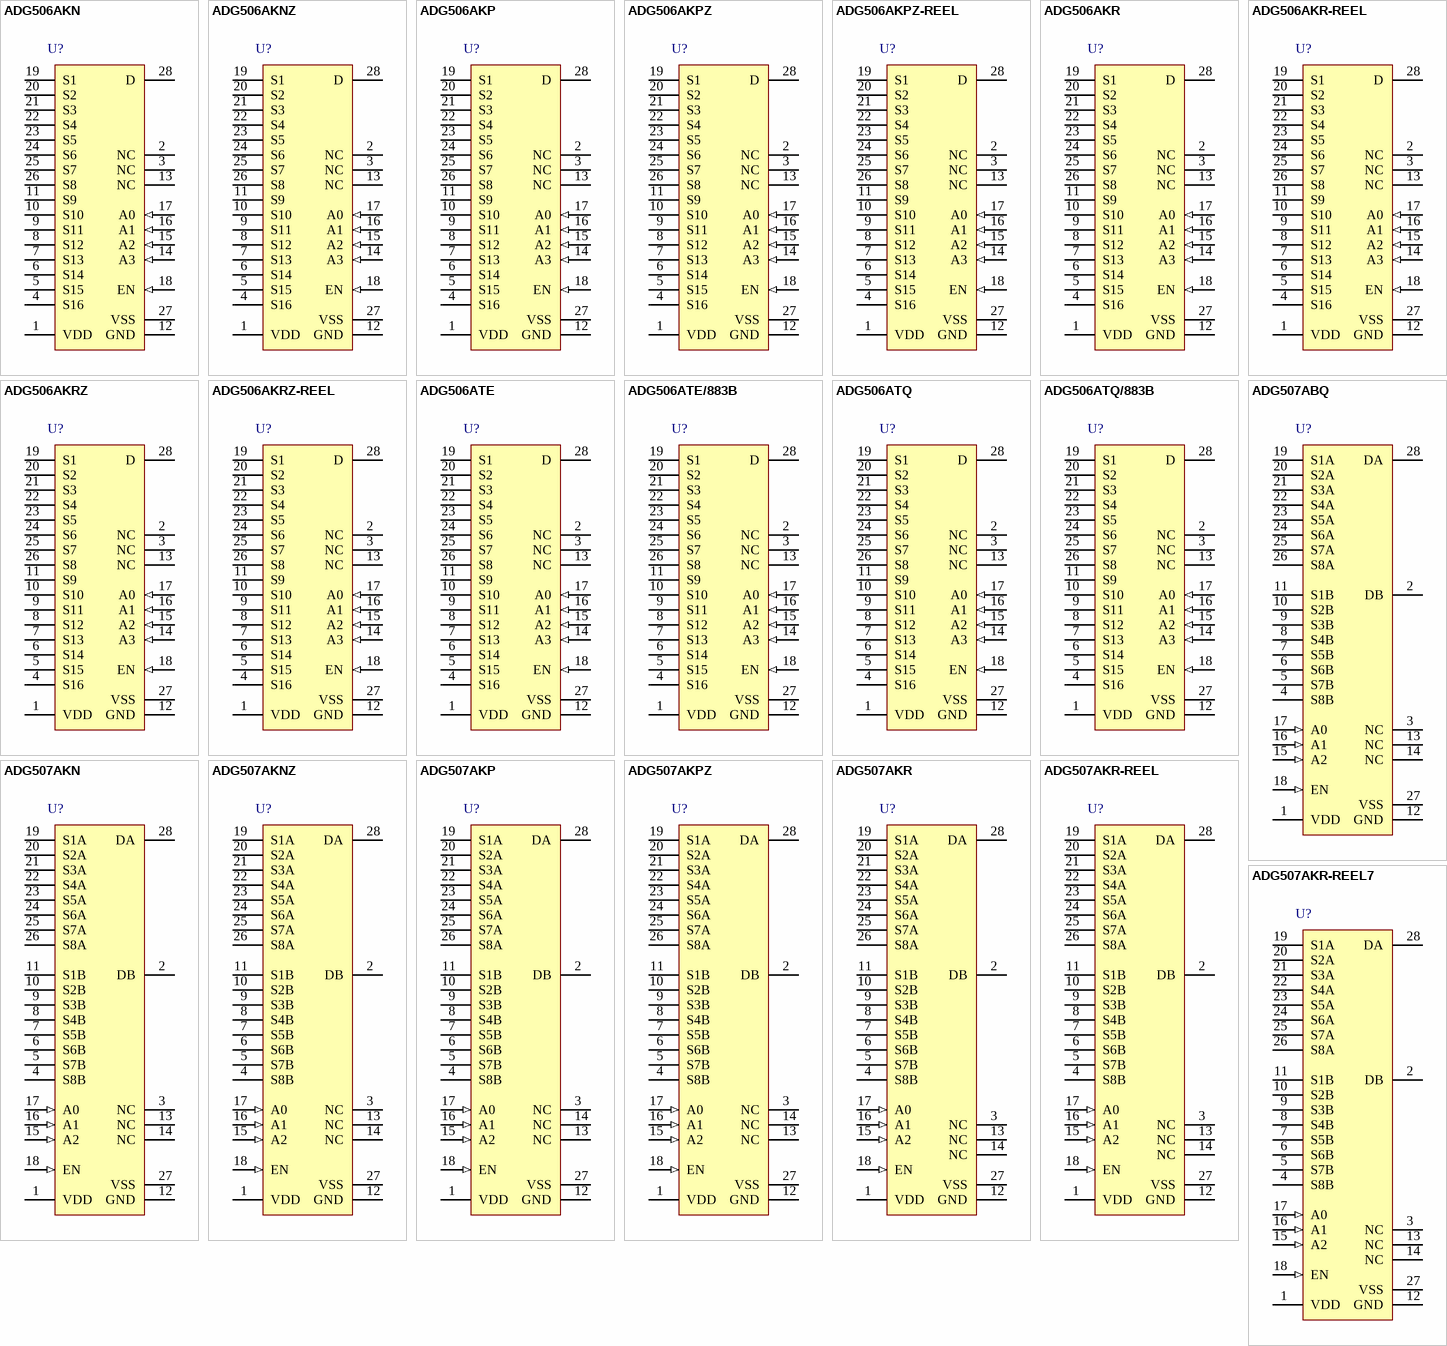
[diagram p4: symbols ADG506AKN to ADG507AKR-REEL7]

## ADG506AKN
designator U?
CMOS 16-Channel Analog Multiplexer, 280 Ohm / 500 Ohm Ron, 28-pin DIP (N-28-2), Tube; Manufacturer: Analog Devices; PartNumber: ADG506AKN; Max Analog Signal Range: Vss to Vdd; Ron (ohms): 280; t transition (s): 200n; DatasheetVersion: Rev. C; PackageVersion: 071006-A, 07/2006; PackageReference: N-28-2; PackageDescription: 28-Pin Plastic Dual In-Line Package, Row spacing 15.24 mm, Pitch 2.54 mm; Supplier 1: Digi-Key; Supplier Part Number 1: ADG506AKN-ND; Supplier 2: Mouser; Supplier Part Number 2: 584-ADG506AKN; Packing: Tube; Mounting Technology: Through Hole; Code_JEDEC: MS-011; ComponentLink1Description: Manufacturer URL; ComponentLink1URL: http://www.analog.com/en/index.html; ComponentLink2Description: Datasheet; ComponentLink2URL: http://www.analog.com/static/imported-files/data_sheets/ADG506A_507A.pdf; ComponentLink3Description: Package Specification; ComponentLink3URL: http://www.analog.com/static/imported-files/packages/50849324123784N_28_2.pdf
footprint ADI-N-28-2 (DIP, 28-Leads, Body 37.4x13.52mm, Pitch 2.54mm)
pins: 1 VDD (power) "Most Positive Power Supply Potential", 2 NC "No connect", 3 NC "No connect", 4 S16, 5 S15, 6 S14, 7 S13, 8 S12, 9 S11, 10 S10, 11 S9, 12 GND (power), 13 NC "No connect", 14 A3 (in), 15 A2 (in), 16 A1 (in), 17 A0 (in), 18 EN (in), 19 S1, 20 S2, 21 S3, 22 S4, 23 S5, 24 S6, 25 S7, 26 S8, 27 VSS (power) "Most Negative Power Supply in a Dual-Supply Application. In single-supply applications, connect to GND.", 28 D

## ADG506AKNZ
designator U?
CMOS 16-Channel Analog Multiplexer, 280 Ohm / 500 Ohm Ron, 28-pin DIP (N-28-2), Tube; Manufacturer: Analog Devices; PartNumber: ADG506AKNZ; Max Analog Signal Range: Vss to Vdd; Ron (ohms): 280; t transition (s): 200n; DatasheetVersion: Rev. C; PackageVersion: 071006-A, 07/2006; PackageReference: N-28-2; PackageDescription: 28-Pin Plastic Dual In-Line Package, Row spacing 15.24 mm, Pitch 2.54 mm; Supplier 1: Digi-Key; Supplier Part Number 1: ADG506AKNZ-ND; Supplier 2: Farnell; Supplier Part Number 2: 9604987; Supplier 3: Newark; Supplier Part Number 3: 59K1351; Supplier 4: Mouser; Supplier Part Number 4: 584-ADG506AKNZ; Packing: Tube; Mounting Technology: Through Hole; Code_JEDEC: MS-011; ComponentLink1Description: Manufacturer URL; ComponentLink1URL: http://www.analog.com/en/index.html; ComponentLink2Description: Datasheet; ComponentLink2URL: http://www.analog.com/static/imported-files/data_sheets/ADG506A_507A.pdf; ComponentLink3Description: Package Specification; ComponentLink3URL: http://www.analog.com/static/imported-files/packages/50849324123784N_28_2.pdf
footprint ADI-N-28-2 (DIP, 28-Leads, Body 37.4x13.52mm, Pitch 2.54mm)
pins: 1 VDD (power) "Most Positive Power Supply Potential", 2 NC "No connect", 3 NC "No connect", 4 S16, 5 S15, 6 S14, 7 S13, 8 S12, 9 S11, 10 S10, 11 S9, 12 GND (power), 13 NC "No connect", 14 A3 (in), 15 A2 (in), 16 A1 (in), 17 A0 (in), 18 EN (in), 19 S1, 20 S2, 21 S3, 22 S4, 23 S5, 24 S6, 25 S7, 26 S8, 27 VSS (power) "Most Negative Power Supply in a Dual-Supply Application. In single-supply applications, connect to GND.", 28 D

## ADG506AKP
designator U?
CMOS 16-Channel Analog Multiplexer, 280 Ohm / 500 Ohm Ron, 28-pin PLCC (P-28), Tube; Manufacturer: Analog Devices; PartNumber: ADG506AKP; Max Analog Signal Range: Vss to Vdd; Ron (ohms): 280; t transition (s): 200n; DatasheetVersion: Rev. C; PackageVersion: 042508-A, 04/2008; PackageReference: P-28; PackageDescription: 28-Pin Plastic Leaded Chip Carrier, Body 11.51 x 11.51 mm, Pitch 1.27 mm; Supplier 1: Digi-Key; Supplier Part Number 1: ADG506AKP-ND; Supplier 2: Mouser; Supplier Part Number 2: 584-ADG506AKP; Packing: Tube; Mounting Technology: Surface Mount; Code_JEDEC: MO-047-AB; ComponentLink1Description: Manufacturer URL; ComponentLink1URL: http://www.analog.com/en/index.html; ComponentLink2Description: Datasheet; ComponentLink2URL: http://www.analog.com/static/imported-files/data_sheets/ADG506A_507A.pdf; ComponentLink3Description: Package Specification; ComponentLink3URL: http://www.analog.com/static/imported-files/packages/PKG_PDF/PLCC(P)/P_28.pdf
footprint ADI-P-28_N (PLCC, 28-Leads, Body 11.51x11.51mm, Pitch 1.27mm, IPC Medium Density)
footprint ADI-P-28_L (PLCC, 28-Leads, Body 11.51x11.51mm, Pitch 1.27mm, IPC High Density)
footprint ADI-P-28_M (PLCC, 28-Leads, Body 11.51x11.51mm, Pitch 1.27mm, IPC Low Density)
pins: 1 VDD (power), 2 NC "NO CONNECT", 3 NC "NO CONNECT", 4 S16, 5 S15, 6 S14, 7 S13, 8 S12, 9 S11, 10 S10, 11 S9, 12 GND (power), 13 NC "NO CONNECT", 14 A3 (in), 15 A2 (in), 16 A1 (in), 17 A0 (in), 18 EN (in), 19 S1, 20 S2, 21 S3, 22 S4, 23 S5, 24 S6, 25 S7, 26 S8, 27 VSS (power), 28 D

## ADG506AKPZ
designator U?
CMOS 16-Channel Analog Multiplexer, 280 Ohm / 500 Ohm Ron, 28-pin PLCC (P-28), Tube; Manufacturer: Analog Devices; PartNumber: ADG506AKPZ; Max Analog Signal Range: Vss to Vdd; Ron (ohms): 280; t transition (s): 200n; DatasheetVersion: Rev. C; PackageVersion: 042508-A, 04/2008; PackageReference: P-28; PackageDescription: 28-Pin Plastic Leaded Chip Carrier, Body 11.51 x 11.51 mm, Pitch 1.27 mm; Supplier 1: Digi-Key; Supplier Part Number 1: ADG506AKPZ-ND; Supplier 2: Farnell; Supplier Part Number 2: 2305798; Supplier 3: Newark; Supplier Part Number 3: 59K1352; Supplier 4: Mouser; Supplier Part Number 4: 584-ADG506AKPZ; Packing: Tube; Mounting Technology: Surface Mount; Code_JEDEC: MO-047-AB; ComponentLink1Description: Manufacturer URL; ComponentLink1URL: http://www.analog.com/en/index.html; ComponentLink2Description: Datasheet; ComponentLink2URL: http://www.analog.com/static/imported-files/data_sheets/ADG506A_507A.pdf; ComponentLink3Description: Package Specification; ComponentLink3URL: http://www.analog.com/static/imported-files/packages/PKG_PDF/PLCC(P)/P_28.pdf
footprint ADI-P-28_N (PLCC, 28-Leads, Body 11.51x11.51mm, Pitch 1.27mm, IPC Medium Density)
footprint ADI-P-28_L (PLCC, 28-Leads, Body 11.51x11.51mm, Pitch 1.27mm, IPC High Density)
footprint ADI-P-28_M (PLCC, 28-Leads, Body 11.51x11.51mm, Pitch 1.27mm, IPC Low Density)
pins: 1 VDD (power), 2 NC "NO CONNECT", 3 NC "NO CONNECT", 4 S16, 5 S15, 6 S14, 7 S13, 8 S12, 9 S11, 10 S10, 11 S9, 12 GND (power), 13 NC "NO CONNECT", 14 A3 (in), 15 A2 (in), 16 A1 (in), 17 A0 (in), 18 EN (in), 19 S1, 20 S2, 21 S3, 22 S4, 23 S5, 24 S6, 25 S7, 26 S8, 27 VSS (power), 28 D

## ADG506AKPZ-REEL
designator U?
CMOS 16-Channel Analog Multiplexer, 280 Ohm / 500 Ohm Ron, 28-pin PLCC (P-28), Reel; Manufacturer: Analog Devices; PartNumber: ADG506AKPZ-REEL; Max Analog Signal Range: Vss to Vdd; Ron (ohms): 280; t transition (s): 200n; DatasheetVersion: Rev. C; PackageVersion: 042508-A, 04/2008; PackageReference: P-28; PackageDescription: 28-Pin Plastic Leaded Chip Carrier, Body 11.51 x 11.51 mm, Pitch 1.27 mm; Supplier 1: Mouser; Supplier Part Number 1: N/A; Packing: Reel; Mounting Technology: Surface Mount; Code_JEDEC: MO-047-AB; ComponentLink1Description: Manufacturer URL; ComponentLink1URL: http://www.analog.com/en/index.html; ComponentLink2Description: Datasheet; ComponentLink2URL: http://www.analog.com/static/imported-files/data_sheets/ADG506A_507A.pdf; ComponentLink3Description: Package Specification; ComponentLink3URL: http://www.analog.com/static/imported-files/packages/PKG_PDF/PLCC(P)/P_28.pdf
footprint ADI-P-28_N (PLCC, 28-Leads, Body 11.51x11.51mm, Pitch 1.27mm, IPC Medium Density)
footprint ADI-P-28_L (PLCC, 28-Leads, Body 11.51x11.51mm, Pitch 1.27mm, IPC High Density)
footprint ADI-P-28_M (PLCC, 28-Leads, Body 11.51x11.51mm, Pitch 1.27mm, IPC Low Density)
pins: 1 VDD (power), 2 NC "NO CONNECT", 3 NC "NO CONNECT", 4 S16, 5 S15, 6 S14, 7 S13, 8 S12, 9 S11, 10 S10, 11 S9, 12 GND (power), 13 NC "NO CONNECT", 14 A3 (in), 15 A2 (in), 16 A1 (in), 17 A0 (in), 18 EN (in), 19 S1, 20 S2, 21 S3, 22 S4, 23 S5, 24 S6, 25 S7, 26 S8, 27 VSS (power), 28 D

## ADG506AKR
designator U?
CMOS 16-Channel Analog Multiplexer, 280 Ohm / 500 Ohm Ron, 28-pin SOIC (RW-28), Tube; Manufacturer: Analog Devices; PartNumber: ADG506AKR; Max Analog Signal Range: Vss to Vdd; Ron (ohms): 280; t transition (s): 200n; DatasheetVersion: Rev. C; PackageVersion: 060706-A, 06/2006; PackageReference: RW-28; PackageDescription: 28-Pin Standard Small Outline Package, Body 17.9 x 7.5 mm, Pitch 1.27 mm; Supplier 1: Digi-Key; Supplier Part Number 1: ADG506AKR-ND; Supplier 2: Mouser; Supplier Part Number 2: 584-ADG506AKR; Packing: Tube; Mounting Technology: Surface Mount; Code_JEDEC: MS-013-AE; ComponentLink1Description: Manufacturer URL; ComponentLink1URL: http://www.analog.com/en/index.html; ComponentLink2Description: Datasheet; ComponentLink2URL: http://www.analog.com/static/imported-files/data_sheets/ADG506A_507A.pdf; ComponentLink3Description: Package Specification; ComponentLink3URL: http://www.analog.com/static/imported-files/packages/35833120341221RW_28.pdf
footprint ADI-RW-28_N (SOIC, 28-Leads, Body 17.9x7.5mm, Pitch 1.27mm, IPC Medium Density)
footprint ADI-RW-28_L (SOIC, 28-Leads, Body 17.9x7.5mm, Pitch 1.27mm, IPC High Density)
footprint ADI-RW-28_M (SOIC, 28-Leads, Body 17.9x7.5mm, Pitch 1.27mm, IPC Low Density)
pins: 1 VDD (power), 2 NC, 3 NC, 4 S16, 5 S15, 6 S14, 7 S13, 8 S12, 9 S11, 10 S10, 11 S9, 12 GND (power), 13 NC, 14 A3 (in), 15 A2 (in), 16 A1 (in), 17 A0 (in), 18 EN (in), 19 S1, 20 S2, 21 S3, 22 S4, 23 S5, 24 S6, 25 S7, 26 S8, 27 VSS (power), 28 D

## ADG506AKR-REEL
designator U?
CMOS 16-Channel Analog Multiplexer, 280 Ohm / 500 Ohm Ron, 28-pin SOIC (RW-28), Reel; Manufacturer: Analog Devices; PartNumber: ADG506AKR-REEL; Max Analog Signal Range: Vss to Vdd; Ron (ohms): 280; t transition (s): 200n; DatasheetVersion: Rev. C; PackageVersion: 060706-A, 06/2006; PackageReference: RW-28; PackageDescription: 28-Pin Standard Small Outline Package, Body 17.9 x 7.5 mm, Pitch 1.27 mm; Supplier 1: Digi-Key; Supplier Part Number 1: ADG506AKR-REEL-ND; Supplier 2: Newark; Supplier Part Number 2: 09B7086; Supplier 3: Mouser; Supplier Part Number 3: 584-ADG506AKR-R; Packing: Reel; Mounting Technology: Surface Mount; Code_JEDEC: MS-013-AE; ComponentLink1Description: Manufacturer URL; ComponentLink1URL: http://www.analog.com/en/index.html; ComponentLink2Description: Datasheet; ComponentLink2URL: http://www.analog.com/static/imported-files/data_sheets/ADG506A_507A.pdf; ComponentLink3Description: Package Specification; ComponentLink3URL: http://www.analog.com/static/imported-files/packages/35833120341221RW_28.pdf
footprint ADI-RW-28_N (SOIC, 28-Leads, Body 17.9x7.5mm, Pitch 1.27mm, IPC Medium Density)
footprint ADI-RW-28_L (SOIC, 28-Leads, Body 17.9x7.5mm, Pitch 1.27mm, IPC High Density)
footprint ADI-RW-28_M (SOIC, 28-Leads, Body 17.9x7.5mm, Pitch 1.27mm, IPC Low Density)
pins: 1 VDD (power), 2 NC, 3 NC, 4 S16, 5 S15, 6 S14, 7 S13, 8 S12, 9 S11, 10 S10, 11 S9, 12 GND (power), 13 NC, 14 A3 (in), 15 A2 (in), 16 A1 (in), 17 A0 (in), 18 EN (in), 19 S1, 20 S2, 21 S3, 22 S4, 23 S5, 24 S6, 25 S7, 26 S8, 27 VSS (power), 28 D

## ADG506AKRZ
designator U?
CMOS 16-Channel Analog Multiplexer, 280 Ohm / 500 Ohm Ron, 28-pin SOIC (RW-28), Tube; Manufacturer: Analog Devices; PartNumber: ADG506AKRZ; Max Analog Signal Range: Vss to Vdd; Ron (ohms): 280; t transition (s): 200n; DatasheetVersion: Rev. C; PackageVersion: 060706-A, 06/2006; PackageReference: RW-28; PackageDescription: 28-Pin Standard Small Outline Package, Body 17.9 x 7.5 mm, Pitch 1.27 mm; Supplier 1: Digi-Key; Supplier Part Number 1: ADG506AKRZ-ND; Supplier 2: Farnell; Supplier Part Number 2: 1661032; Supplier 3: Newark; Supplier Part Number 3: 59K1353; Supplier 4: Mouser; Supplier Part Number 4: 584-ADG506AKRZ; Packing: Tube; Mounting Technology: Surface Mount; Code_JEDEC: MS-013-AE; ComponentLink1Description: Manufacturer URL; ComponentLink1URL: http://www.analog.com/en/index.html; ComponentLink2Description: Datasheet; ComponentLink2URL: http://www.analog.com/static/imported-files/data_sheets/ADG506A_507A.pdf; ComponentLink3Description: Package Specification; ComponentLink3URL: http://www.analog.com/static/imported-files/packages/35833120341221RW_28.pdf
footprint ADI-RW-28_N (SOIC, 28-Leads, Body 17.9x7.5mm, Pitch 1.27mm, IPC Medium Density)
footprint ADI-RW-28_L (SOIC, 28-Leads, Body 17.9x7.5mm, Pitch 1.27mm, IPC High Density)
footprint ADI-RW-28_M (SOIC, 28-Leads, Body 17.9x7.5mm, Pitch 1.27mm, IPC Low Density)
pins: 1 VDD (power), 2 NC, 3 NC, 4 S16, 5 S15, 6 S14, 7 S13, 8 S12, 9 S11, 10 S10, 11 S9, 12 GND (power), 13 NC, 14 A3 (in), 15 A2 (in), 16 A1 (in), 17 A0 (in), 18 EN (in), 19 S1, 20 S2, 21 S3, 22 S4, 23 S5, 24 S6, 25 S7, 26 S8, 27 VSS (power), 28 D